# Altium footprint library CAPC_1206_M3216.PcbLib: 1 footprints
Each footprint in its own frame and in the unit in brackets; x right, y up, seen from the top. Pads: shape width x height; smd on the part's side, far side on the other; paste and mask are expansions set on the pad; w line width, h text height; cw(c..) or ccw(c..) is an arc to the next point about the centre after c.
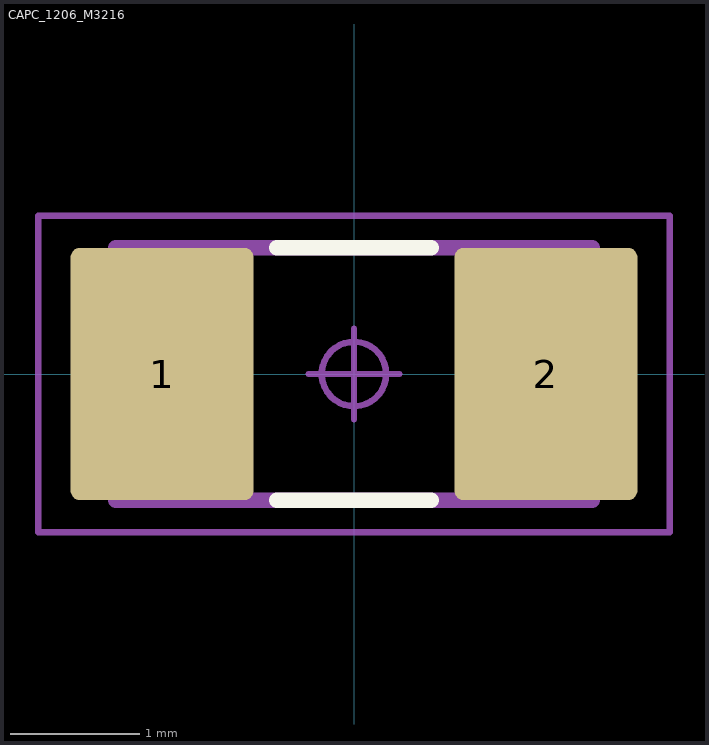
[diagram p0: the footprint, top view; thin cyan lines are the x and y axes]

## CAPC_1206_M3216 [mm] "Capacitor, Chip; 3.30 mm L X 1.60 mm W X 1.95 mm H body"
pads (2):
  rrect10% 1.42x1.96 smd: 1(-1.49,0) 2(1.49,0)
Top Overlay:
  lines w0.12: -0.6,-0.98 0.6,-0.98 ; -0.6,0.98 0.6,0.98
Mechanical 11:
  lines w0.12: -1.85,-0.98 1.85,-0.98 1.85,0.98 -1.85,0.98 -1.85,-0.98
  text ".Designator" at -1.821,-0.223 h1
Mechanical 15:
  circle w0.05: c0,0 r0.25
  lines w0.05: -0.35,0 0.35,0 ; 0,-0.35 0,0.35 ; -2.45,-1.23 2.45,-1.23 2.45,1.23 -2.45,1.23 -2.45,-1.23
3D body "CAPC_1206_M3216.STEP": height 1.95, standoff 0, extent -1.85,-0.975 1.85,0.975